# Altium schematic symbol library MICRO_SD.SchLib: 1 symbol
Pins are listed as number, name and electrical type; pins without a type are passive.

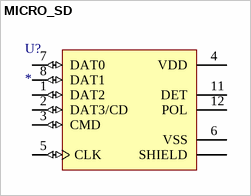
[diagram p0: symbol MICRO_SD]

## MICRO_SD
designator U?
Value: *
pins: 1 DAT2 (io), 2 DAT3/CD (io), 3 CMD (io), 4 VDD (power), 5 CLK (io), 6 VSS (power), 7 DAT0 (io), 8 DAT1 (io), 9 GND@1 (power), 10 SHIELD (power), 11 DET, 12 POL, 13 GND@3 (power)